# Altium schematic symbol library МЭМС датчики.SchLib: 7 symbols
Pins are listed as number, name and electrical type; pins without a type are passive.

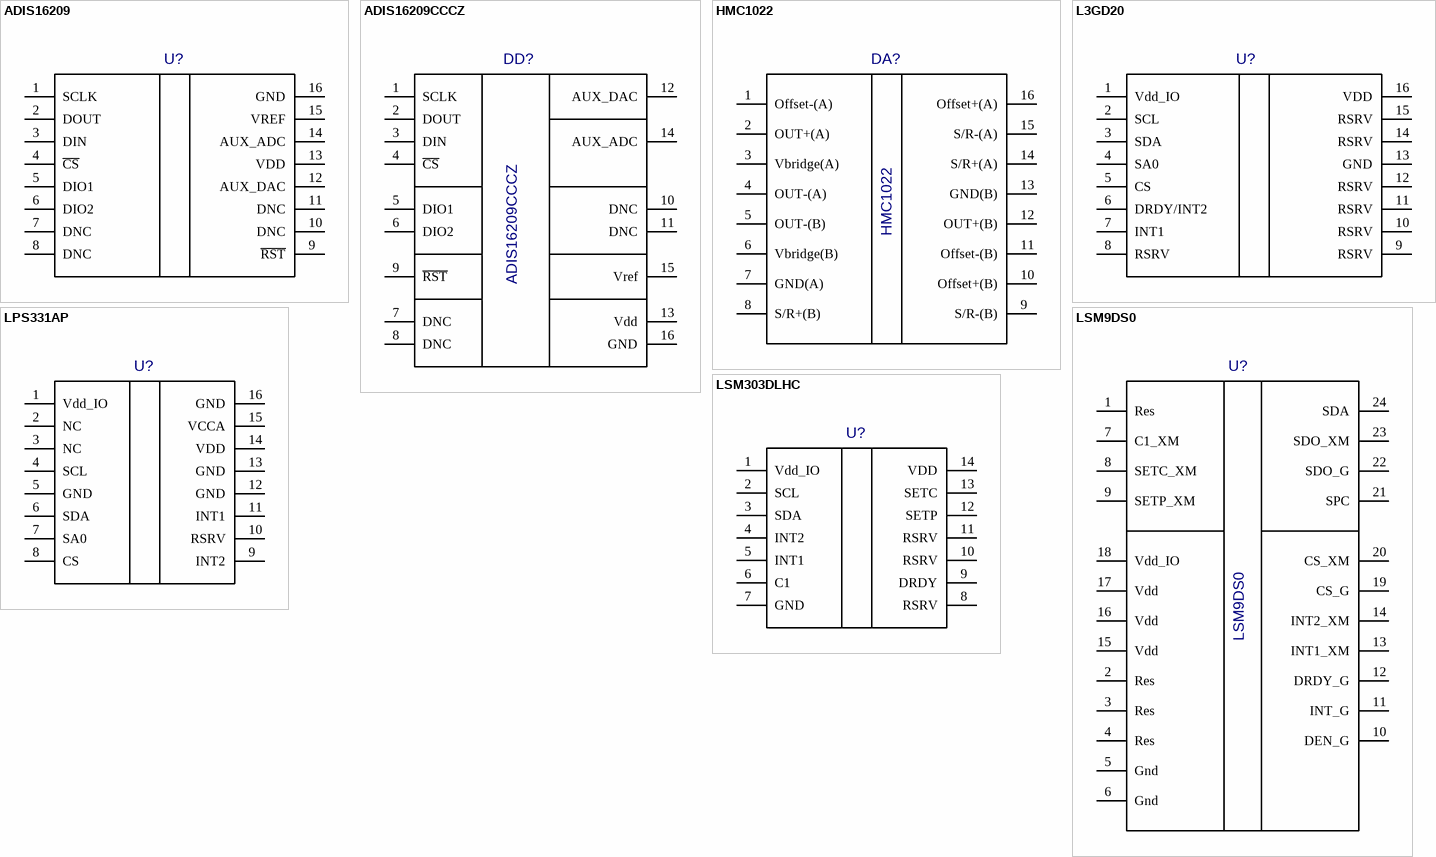
[diagram p0: symbols ADIS16209 to LSM303DLHC]

## ADIS16209
designator U?  (value not drawn)
Value: *
pins: 1 SCLK, 2 DOUT, 3 DIN, 4 ~{CS}, 5 DIO1, 6 DIO2, 7 DNC, 8 DNC, 9 ~{RST}, 10 DNC, 11 DNC, 12 AUX_DAC, 13 VDD, 14 AUX_ADC, 15 VREF, 16 GND

## ADIS16209CCCZ
designator DD?
Value: *
pins: 1 SCLK, 2 DOUT, 3 DIN, 4 ~{CS}, 5 DIO1, 6 DIO2, 7 DNC, 8 DNC, 9 ~{RST}, 10 DNC, 11 DNC, 12 AUX_DAC, 13 Vdd, 14 AUX_ADC, 15 Vref, 16 GND

## HMC1022
designator DA?
Value: *
footprint SO16
pins: 1 Offset-(A), 2 OUT+(A), 3 Vbridge(A), 4 OUT-(A), 5 OUT-(B), 6 Vbridge(B), 7 GND(A), 8 S/R+(B), 9 S/R-(B), 10 Offset+(B), 11 Offset-(B), 12 OUT+(B), 13 GND(B), 14 S/R+(A), 15 S/R-(A), 16 Offset+(A)

## L3GD20
designator U?  (value not drawn)
Value: *
pins: 1 Vdd_IO, 2 SCL, 3 SDA, 4 SA0, 5 CS, 6 DRDY/INT2, 7 INT1, 8 RSRV, 9 RSRV, 10 RSRV, 11 RSRV, 12 RSRV, 13 GND, 14 RSRV, 15 RSRV, 16 VDD

## LPS331AP
designator U?  (value not drawn)
Value: *
pins: 1 Vdd_IO, 2 NC, 3 NC, 4 SCL, 5 GND, 6 SDA, 7 SA0, 8 CS, 9 INT2, 10 RSRV, 11 INT1, 12 GND, 13 GND, 14 VDD, 15 VCCA, 16 GND

## LSM9DS0
designator U?
Value: *
footprint LSM9DS0
pins: 1 Res, 2 Res, 3 Res, 4 Res, 5 Gnd, 6 Gnd, 7 C1_XM, 8 SETC_XM, 9 SETP_XM, 10 DEN_G, 11 INT_G, 12 DRDY_G, 13 INT1_XM, 14 INT2_XM, 15 Vdd, 16 Vdd, 17 Vdd, 18 Vdd_IO, 19 CS_G, 20 CS_XM, 21 SPC, 22 SDO_G, 23 SDO_XM, 24 SDA

## LSM303DLHC
designator U?  (value not drawn)
Value: *
pins: 1 Vdd_IO, 2 SCL, 3 SDA, 4 INT2, 5 INT1, 6 C1, 7 GND, 8 RSRV, 9 DRDY, 10 RSRV, 11 RSRV, 12 SETP, 13 SETC, 14 VDD